# Altium footprint library Communication Connectors.PcbLib: 8 footprints
Each footprint in its own frame and in the unit in brackets; x right, y up, seen from the top. Pads: shape width x height; smd on the part's side, far side on the other; paste and mask are expansions set on the pad; w line width, h text height; cw(c..) or ccw(c..) is an arc to the next point about the centre after c.
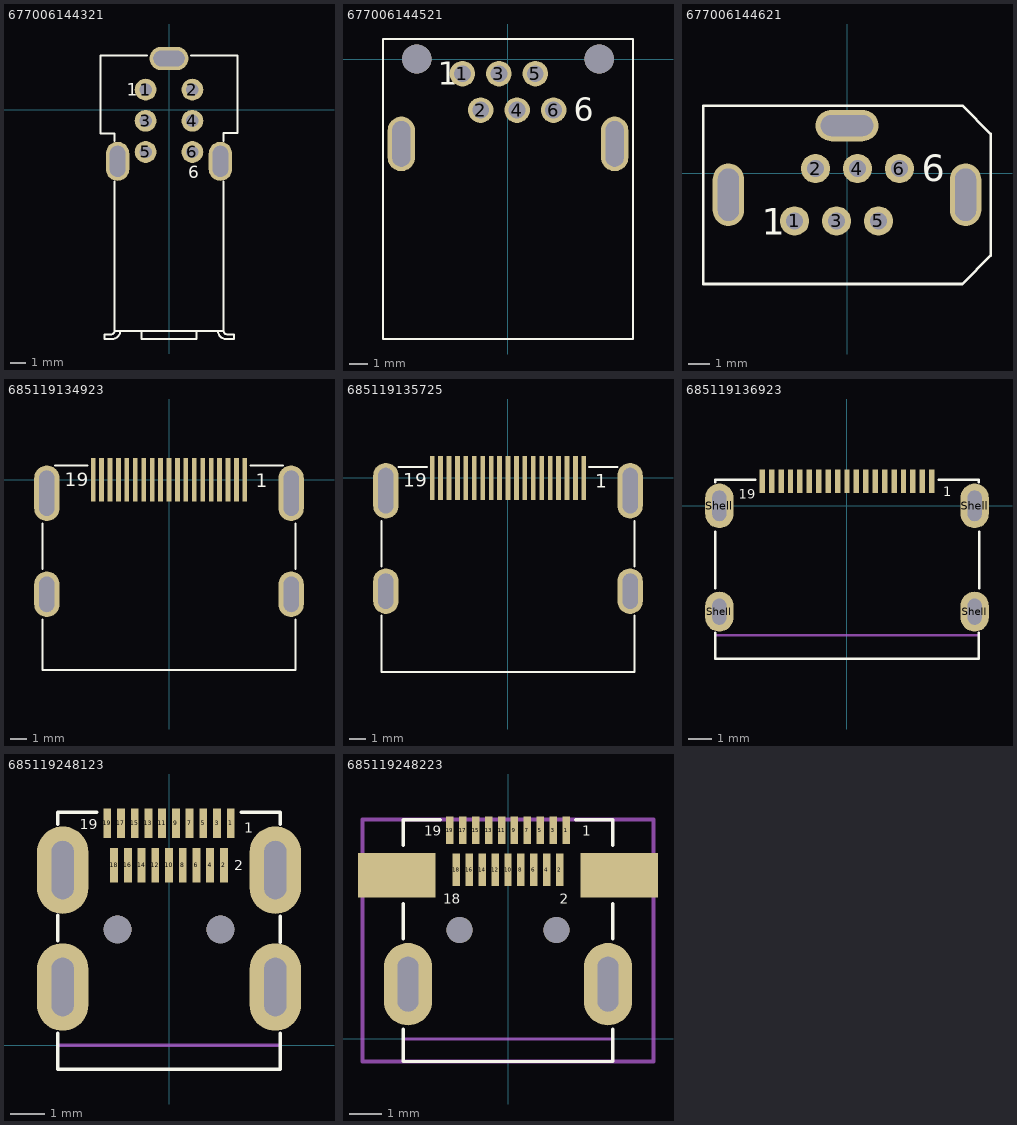
[diagram p0: the footprints below, top view; thin cyan lines are the x and y axes]

## 677006144321 [mm] "Female PCB connector Up-right TH"
height 14
pads (9):
  round 1.4 hole 0.8: 1(-1.5,1.3) 2(1.5,1.3) 3(-1.5,-0.7) 4(1.5,-0.7) 5(-1.5,-2.7) 6(1.5,-2.7)
  oval 1.5x2.5 hole 1 slot 2 at 90 deg: ""(-3.3,-3.3) ""(3.3,-3.3)
  oval 2.5x1.5 hole 1 slot 2 at 0 deg: ""(0,3.3)
Top Overlay:
  lines w0.127: -3.5,-4.6 -3.5,-14.2 ; -3.5,-2 -3.5,-1.51 -4.4,-1.51 -4.4,3.5 -1.4,3.5 ; -3.142,-14.263 cw(c-3.639,-14.199) -3.639,-14.7 -4.15,-14.7 -4.15,-14.398 -3.698,-14.398 ccw(c-3.698,-14.2) -3.5,-14.2 ; -1.75,-14.2 -1.75,-14.7 1.75,-14.7 1.75,-14.2 ; 1.4,3.5 4.4,3.5 4.4,-1.49 4.39,-1.49 3.51,-1.49 3.5,-1.5 3.5,-2 ; 3.152,-14.263 ccw(c3.649,-14.199) 3.649,-14.7 4.16,-14.7 4.16,-14.398 3.708,-14.398 cw(c3.708,-14.2) 3.51,-14.2 -3.5,-14.2 ; 3.5,-14.2 3.5,-4.6
  text "1" at -2.7,0.92 h0.8
  text "6" at 1.25,-4.4 h0.8
3D body: height 13.36, standoff -3.28, extent -4.39,-14.7 4.41,3.5

## 677006144521 [mm] "Female PCB connector Horizontal TH"
height 8.4
pads (10):
  round 1.4 hole 0.92: 1(-2.5,-0.8) 2(-1.5,-2.8) 3(-0.5,-0.8) 4(0.5,-2.8) 5(1.5,-0.8) 6(2.5,-2.8)
  oval 1.5x3 hole 1 slot 2.5 at 90 deg: ""(-5.85,-4.65) ""(5.85,-4.65)
  round 1.6 hole 1.6 unplated paste+0: ""(-5,0) ""(5,0)
Top Overlay:
  lines w0.127: -6.85,-15.35 -6.85,1.1 6.85,1.1 6.85,-15.35 -6.85,-15.35
  text "6" at 3.61,-3.395 h1.27
  text "1" at -3.86,-1.405 h1.27
3D body: height 8.8, standoff -3.3, extent -6.85,-15.325 6.85,0.775

## 677006144621 [mm] "Female PCB connector Vertical TH"
height 14.8
pads (9):
  round 1.4 hole 0.8: 1(-2.5,-2.275) 2(-1.5,0.225) 3(-0.5,-2.275) 4(0.5,0.225) 5(1.5,-2.275) 6(2.5,0.225)
  oval 1.5x3 hole 1 slot 2.5 at 90 deg: ""(-5.65,-1.025) ""(5.65,-1.025)
  oval 3x1.5 hole 1 slot 2.5 at 0 deg: ""(0,2.275)
Top Overlay:
  lines w0.127: -6.85,-5.275 5.5,-5.275 6.85,-3.925 6.85,1.875 5.5,3.225 -6.85,3.225 -6.85,-5.275
  text "6" at 3.556,-0.381 h1.27
  text "1" at -4.064,-2.921 h1.27
3D body: height 14.81, standoff -3.44, extent -6.85,-5.275 6.85,3.225

## 685119134923 [mm] "19 pins"
height 6.13
pads (23):
  rect 0.28x2.6 smd: 1(4.5,0) 2(4,0) 3(3.5,0) 4(3,0) 5(2.5,0) 6(2,0) 7(1.5,0) 8(1,0) 9(0.5,0) 10(0,0) 11(-0.5,0) 12(-1,0) 13(-1.5,0) 14(-2,0) 15(-2.5,0) 16(-3,0) 17(-3.5,0) 18(-4,0) 19(-4.5,0)
  oval 1.5x2.7 hole 0.9 slot 2.1 at 90 deg: ""(-7.25,-6.8) ""(7.25,-6.8)
  oval 1.5x3.3 hole 0.9 slot 2.7 at 90 deg: ""(-7.25,-0.8) ""(7.25,-0.8)
Top Overlay:
  lines w0.127: -7.5,-8.3 -7.5,-10.35 -7.5,-11.3 7.5,-11.3 7.5,-10.35 ; -7.5,-5.3 -7.5,-2.6 ; -6.75,0.85 -4.85,0.85 ; 4.85,0.85 6.75,0.85 ; 7.5,-10.3 7.5,-8.3 ; 7.5,-5.3 7.5,-2.6
  text "19" at -6.18,-0.39 h0.8
  text "1" at 5.14,-0.44 h0.8
3D body: height 6.21, standoff -2.17, extent -7.5,-11.3 7.5,0.85

## 685119135725 [mm] "19p + M3 flange"
height 6.13
pads (23):
  rect 0.28x2.6 smd: 1(4.5,0) 2(4,0) 3(3.5,0) 4(3,0) 5(2.5,0) 6(2,0) 7(1.5,0) 8(1,0) 9(0.5,0) 10(0,0) 11(-0.5,0) 12(-1,0) 13(-1.5,0) 14(-2,0) 15(-2.5,0) 16(-3,0) 17(-3.5,0) 18(-4,0) 19(-4.5,0)
  oval 1.5x2.7 hole 0.9 slot 2.1 at 90 deg: ""(-7.25,-6.72) ""(7.25,-6.72)
  oval 1.5x3.3 hole 0.9 slot 2.7 at 90 deg: ""(-7.25,-0.76) ""(7.25,-0.76)
Top Overlay:
  lines w0.127: -7.5,-10.36 -7.5,-8.16 ; -7.5,-10.35 -7.5,-11.52 7.5,-11.52 7.5,-10.35 7.5,-8.16 ; -7.5,-5.26 -7.5,-2.56 ; -6.5,0.64 -4.8,0.64 ; 4.8,0.64 6.5,0.64 ; 7.5,-5.26 7.5,-2.56
  text "1" at 5.18,-0.58 h0.8
  text "19" at -6.22,-0.52 h0.8
3D body: height 16.08, standoff -2.17, extent -7.5,-11.52 7.5,0.63

## 685119136923 [mm] "19p"
height 3.3
pads (23):
  rect 0.23x1 smd: 1(3.6,1.05) 2(3.2,1.05) 3(2.8,1.05) 4(2.4,1.05) 5(2,1.05) 6(1.6,1.05) 7(1.2,1.05) 8(0.8,1.05) 9(0.4,1.05) 10(0,1.05) 11(-0.4,1.05) 12(-0.8,1.05) 13(-1.2,1.05) 14(-1.6,1.05) 15(-2,1.05) 16(-2.4,1.05) 17(-2.8,1.05) 18(-3.2,1.05) 19(-3.6,1.05)
  oval 1.2x1.7 hole 0.6 slot 1.1 at 90 deg: Shell(-5.425,-4.5) Shell(5.425,-4.5)
  oval 1.2x1.9 hole 0.6 slot 1.3 at 90 deg: Shell(-5.425,0) Shell(5.425,0)
Top Overlay:
  lines w0.1: -5.6,-5.4 -5.6,-6.5 5.6,-6.5 5.6,-5.4 ; -5.6,-3.5 -5.6,-1.1 ; -5.6,1 -5.6,1.1 -3.9,1.1 ; 3.9,1.1 5.6,1.1 5.6,1 ; 5.625,-3.5 5.625,-1.1
  text "19" at -4.6,0.3 h0.4
  text "1" at 4.1,0.4 h0.4
Mechanical 13:
  lines w0.1: -5.6,-5.5 5.6,-5.5
  text "PCB Edge" at -1.2,-5.2 h0.4
3D body: height 3.3, standoff -2.15, extent -5.625,-6.5 5.625,1.402

## 685119248123 [mm] "Receptacle THT shell tabs"
height 3
pads (25):
  rect 0.23x0.85 smd: 1(1.8,6.475) 3(1.4,6.475) 5(1,6.475) 7(0.6,6.475) 9(0.2,6.475) 11(-0.2,6.475) 13(-0.6,6.475) 15(-1,6.475) 17(-1.4,6.475) 19(-1.8,6.475)
  rect 0.23x1 smd: 2(1.6,5.25) 4(1.2,5.25) 6(0.8,5.25) 8(0.4,5.25) 10(0,5.25) 12(-0.4,5.25) 14(-0.8,5.25) 16(-1.2,5.25) 18(-1.6,5.25)
  oval 1.5x2.55 hole 0.65 slot 1.7 at 90 deg paste+0: ""(-3.1,1.7) ""(-3.1,5.11) ""(3.1,1.7) ""(3.1,5.11)
  round 0.81 hole 0.81 unplated paste+0: ""(-1.5,3.38) ""(1.5,3.38)
Top Overlay:
  lines w0.1: -3.25,0.35 -3.25,0 -3.25,-0.7 3.25,-0.7 3.25,0 3.25,0.35 ; -3.25,3.05 -3.25,3.8 ; -3.25,6.45 -3.25,6.8 -2.1,6.8 ; 2.1,6.8 3.25,6.8 3.25,6.45 ; 3.25,3.01 3.25,3.76
  text "1" at 2.2,6.2 h0.3
  text "19" at -2.6,6.3 h0.3
  text "2" at 1.9,5.1 h0.3
Mechanical 13:
  lines w0.1: -3.25,0 3.25,0
  text "PCB Edge" at -1.5,0.3 h0.45
3D body: height 3.01, standoff -1.09, extent -3.25,-0.7 3.25,6.805

## 685119248223 [mm] "Receptacle Hybird Mount consist of Vertical and Horizontal Type shell tabs"
height 3
pads (25):
  rect 0.23x0.85 smd paste+0: 1(1.8,6.475) 3(1.4,6.475) 5(1,6.475) 7(0.6,6.475) 9(0.2,6.475) 11(-0.2,6.475) 13(-0.6,6.475) 15(-1,6.475) 17(-1.4,6.475) 19(-1.8,6.475)
  rect 0.23x1 smd paste+0: 2(1.6,5.25) 4(1.2,5.25) 6(0.8,5.25) 8(0.4,5.25) 10(0,5.25) 12(-0.4,5.25) 14(-0.8,5.25) 16(-1.2,5.25) 18(-1.6,5.25)
  rect 2.4x1.38 smd paste+0: ""(-3.45,5.07) ""(3.45,5.07)
  oval 1.5x2.55 hole 0.65 slot 1.7 at 90 deg: ""(-3.1,1.7) ""(3.1,1.7)
  round 0.81 hole 0.81 unplated paste+0: ""(-1.5,3.38) ""(1.5,3.38)
Top Overlay:
  lines w0.1: -3.25,0.3 -3.25,0 -3.25,-0.7 3.25,-0.7 3.25,0 3.25,0.3 ; -3.25,3.1 -3.25,4.2 ; -3.25,6 -3.25,6.8 -2.1,6.8 ; 2.1,6.8 3.25,6.8 3.25,6 ; 3.25,3.1 3.25,4.2
  text "18" at -2,4.2 h0.3
  text "19" at -2.6,6.3 h0.3
  text "2" at 1.6,4.2 h0.3
  text "1" at 2.3,6.3 h0.3
Mechanical 13:
  lines w0.1: -3.25,0 3.25,0
  lines w0.12: -4.509,-0.7 4.509,-0.7 4.509,6.805 -4.509,6.805 -4.509,-0.7
  text "PCB Edge" at -1,0.2 h0.3
3D body: height 3, standoff -1.1, extent -4.509,-0.7 4.509,6.805